# Altium footprint library DF20160711.PcbLib: 86 footprints (part 6 of 6)
Each footprint in its own frame and in the unit in brackets; x right, y up, seen from the top. Pads: shape width x height; smd on the part's side, far side on the other; paste and mask are expansions set on the pad; w line width, h text height; cw(c..) or ccw(c..) is an arc to the next point about the centre after c.
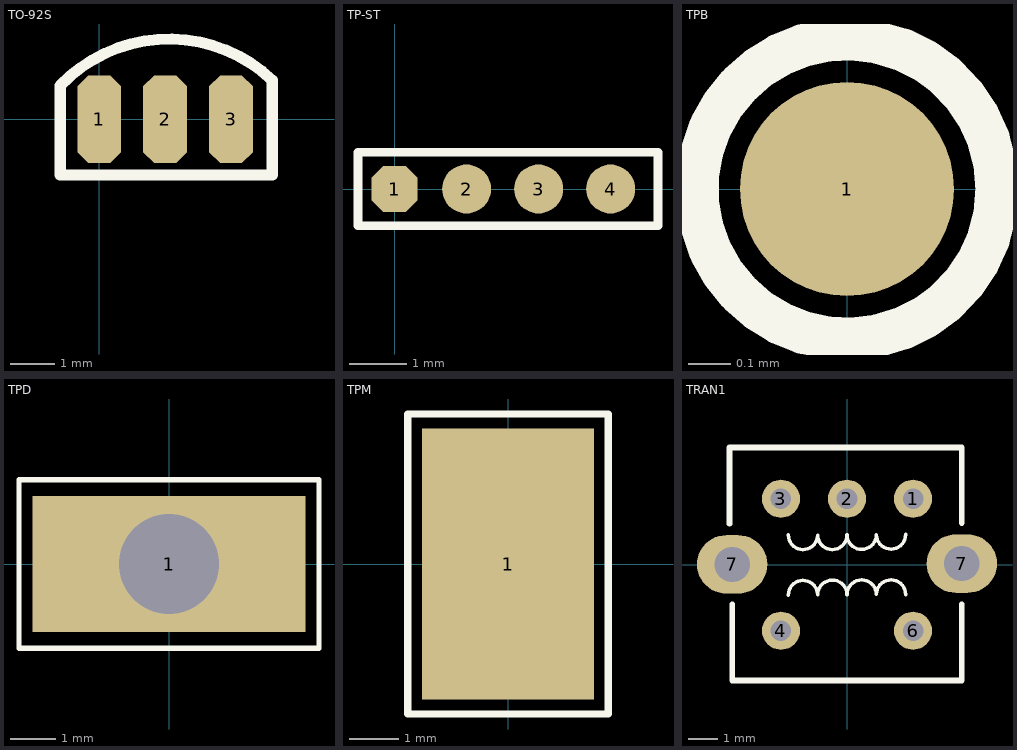
[diagram p5: the footprints below, top view; thin cyan lines are the x and y axes]

## TO-92S [mm]
pads (3):
  oct 1x2 smd: 1(0,0) 2(1.5,0) 3(3,0)
Top Overlay:
  lines w0.254: -0.889,0.254 -0.889,0.762 cw(c1.587,-1.587) 3.937,0.889 3.937,0.508 ; -0.889,0.508 -0.889,-1.27 3.937,-1.27 3.937,0.635

## TP-ST [mm]
pads (4):
  oct 0.8x0.8 smd: 1(0,0)
  round 0.85 smd: 2(1.25,0) 3(2.5,0) 4(3.75,0)
Top Overlay:
  lines w0.15: -0.635,-0.635 4.572,-0.635 4.572,0.635 -0.635,0.635 -0.635,-0.635

## TPB [mm]
height 0.8
pads (1):
  round 0.5 smd: 1(0,0)
Top Overlay:
  circle w0.1: c0,0 r0.35

## TPD [mm]
height 1.3
pads (1):
  rect 6x3 hole 2.2: 1(0,0)
Top Overlay:
  lines w0.12: -3.3,-1.85 -3.3,1.85 3.3,1.85 3.3,-1.85 -3.3,-1.85

## TPM [mm]
pads (1):
  rect 3.5x5.5 smd: 1(0,0)
Top Overlay:
  lines w0.15: -2.04,-3.048 2.04,-3.048 2.04,3.048 -2.04,3.048 -2.04,-3.048

## TRAN1 [mm]
height 1.3
pads (7):
  round 1.3 hole 0.7: 1(2.25,2.25) 2(0,2.25) 3(-2.25,2.25) 4(-2.25,-2.25) 6(2.25,-2.25)
  oval 2.4x2 hole 1.2: 7(-3.912,0.013) 7(3.912,0.038)
Top Overlay:
  lines w0.12: -2,-1.033 cw(c-1.5,-1.033) -1,-1.024 cw(c-0.5,-1.024) 0,-1.016 cw(c0.5,-1.016) 1,-1.008 cw(c1.5,-1.016) 2,-1.016 ; -2,1.016 ccw(c-1.5,1.016) -1,1.008 ccw(c-0.5,1.016) 0,1.016 ccw(c0.5,1.024) 1,1.024 ccw(c1.5,1.033) 2,1.033
  lines w0.2: -4,1.397 -4,4 3.912,4 3.912,1.422 ; -3.912,-1.346 -3.912,-3.949 3.912,-3.949 3.912,-1.346